# EAGLE library part PCF8574 (library nxp)
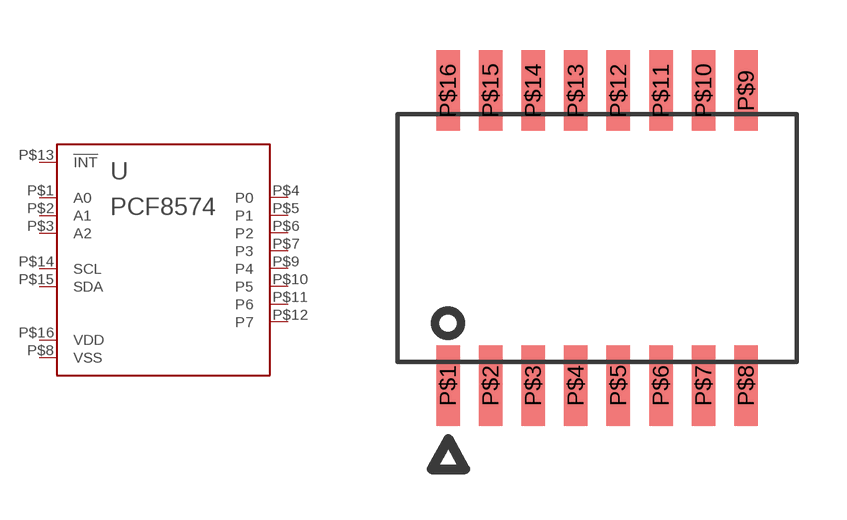
[diagram p3: symbol with the pads of SO16; footprint SO16]

Designator prefix U

## PCF8574T/3  [SO16]
P$1  A0
P$2  A1
P$3  A2
P$4  P0
P$5  P1
P$6  P2
P$7  P3
P$8  VSS
P$9  P4
P$10  P5
P$11  P6
P$12  P7
P$13  !INT
P$14  SCL
P$15  SDA
P$16  VDD

## Footprint SO16 (pad centres in mm)
smd 0.7 x 2.4: P$1 -3.81,-4.4; P$2 -2.54,-4.4; P$3 -1.27,-4.4; P$4 0,-4.4; P$5 1.27,-4.4; P$6 2.54,-4.4; P$7 3.81,-4.4; P$8 5.08,-4.4; P$9 5.08,4.4; P$10 3.81,4.4; P$11 2.54,4.4; P$12 1.27,4.4; P$13 0,4.4; P$14 -1.27,4.4; P$15 -2.54,4.4; P$16 -3.81,4.4